# EAGLE library part 1X7-SOCKET-HEADER (library v2)
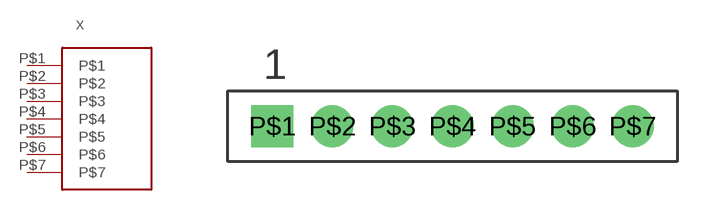
[diagram p0: symbol with the pads of 1X7-SOCKET-HEADER; footprint 1X7-SOCKET-HEADER]

Designator prefix X

## 1X7-SOCKET-HEADER  [1X7-SOCKET-HEADER]
P$1  P$1  pas
P$2  P$2  pas
P$3  P$3  pas
P$4  P$4  pas
P$5  P$5  pas
P$6  P$6  pas
P$7  P$7  pas

## Footprint 1X7-SOCKET-HEADER (pad centres in mm)
drill 0.85 pad 1.778 square: P$1 -7.62,0
drill 0.85 pad 1.778: P$2 -5.08,0; P$3 -2.54,0; P$4 0,0; P$5 2.54,0; P$6 5.08,0; P$7 7.62,0